# Altium integrated library DRC-V-222K.IntLib: 1 symbol
Pins are listed as number, name and electrical type; pins without a type are passive.

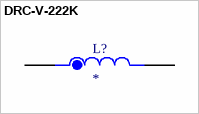
[diagram p0: symbol DRC-V-222K]

## DRC-V-222K
designator L?
Radial Coil Inductor; MF: Bel Fuse; MP: DRC-V-222K; Price: None; SnapEDA_Link: https://www.snapeda.com/parts/DRC-V-222K/Bel+Fuse/view-part/?ref=snap; Check_prices: https://www.snapeda.com/parts/DRC-V-222K/Bel+Fuse/view-part/?ref=eda; Value: *; Availability: Not in stock; Package: None
footprint IND_DRC-V-222K
pins: 1, 2